# Altium schematic symbol library Memory_NVRAM.SchLib: 32 symbols
Pins are listed as number, name and electrical type; pins without a type are passive.

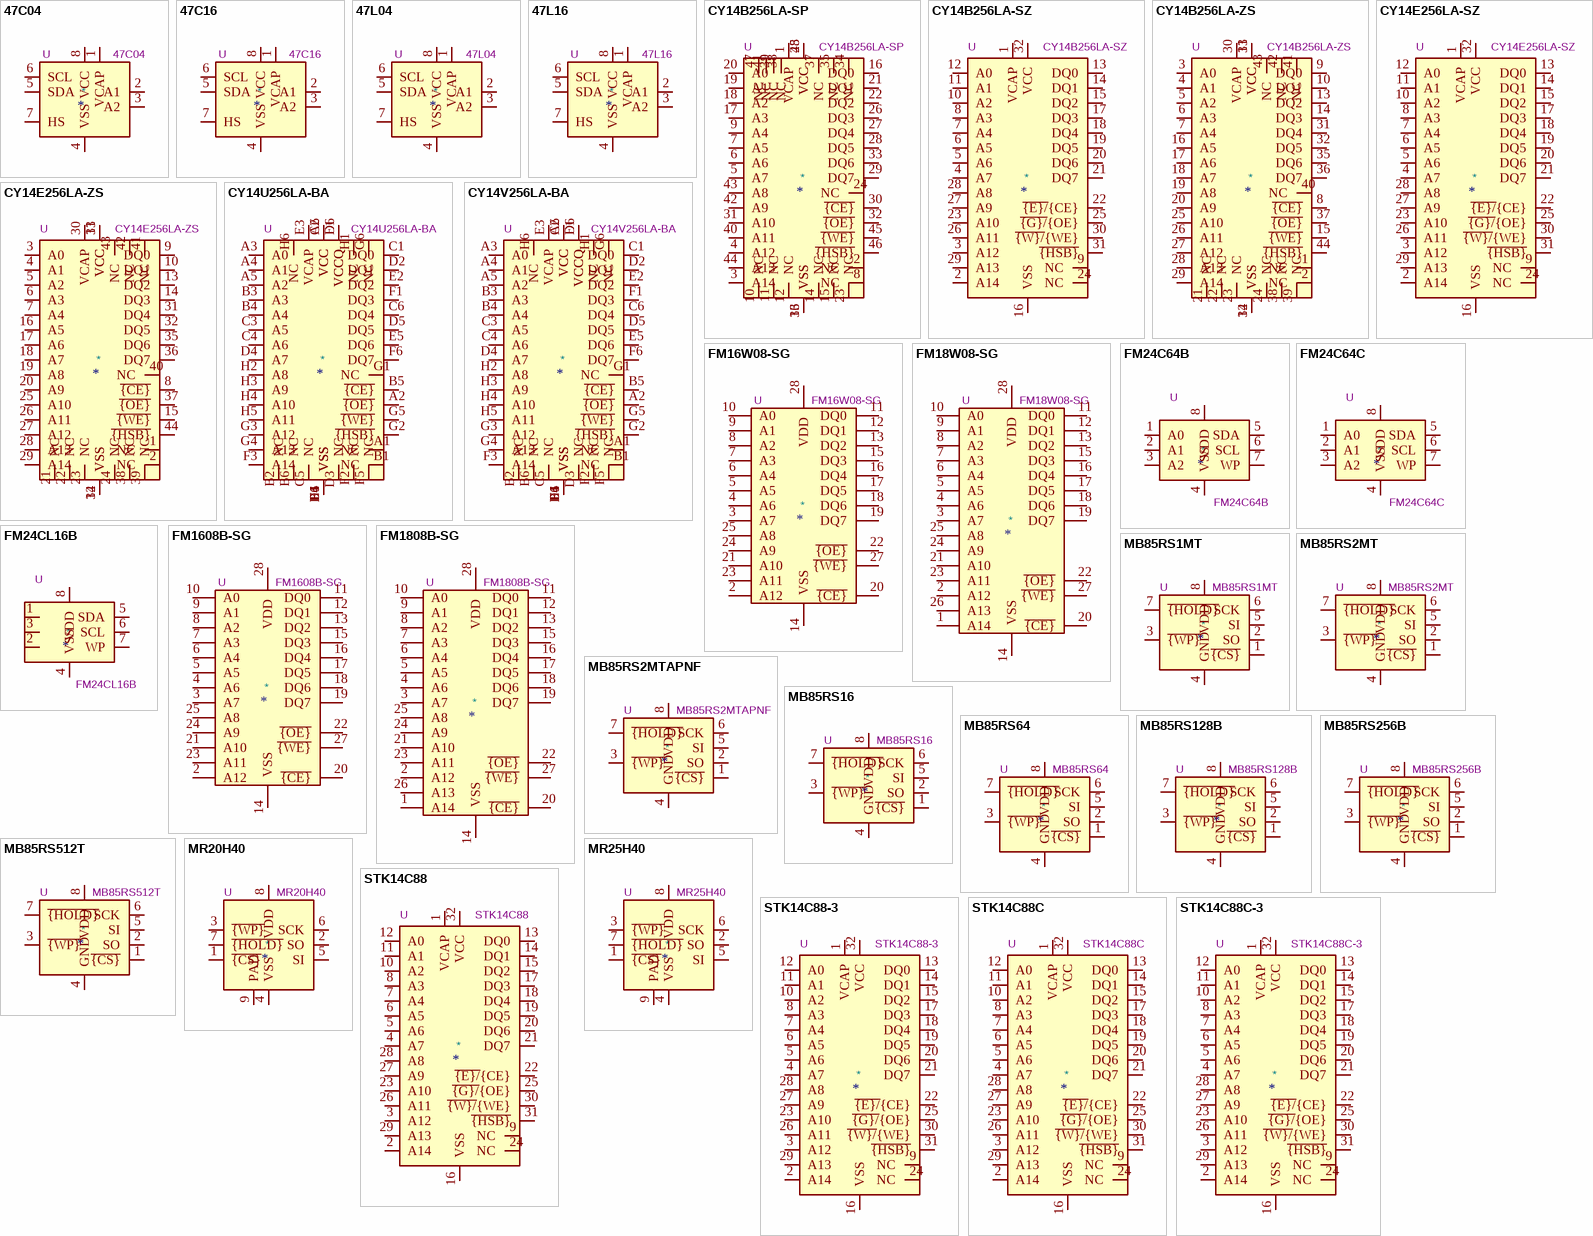
[diagram p0: symbols 47C04 to STK14C88C-3]

## 47C04
designator *  value 47C04  Reference: U
4kbit I2C serial EERAM, SRAM with EEPROM backup, 4.5-5.5V, DIP-8/SOIC-8/TSSOP-8; ki_keywords: 4kb 5V I2C serial EERAM SRAM EEPROM; ki_fp_filters: DIP*W7.62mm* SOIC*3.9x4.9mm*P1.27mm* TSSOP*4.4x3mm*P0.65mm*; Datasheet: http://ww1.microchip.com/downloads/en/DeviceDoc/20005371C.pdf; Description_: 4kbit I2C serial EERAM, SRAM with EEPROM backup, 4.5-5.5V, DIP-8/SOIC-8/TSSOP-8
pins: 1 VCAP, 2 A1, 3 A2, 4 VSS, 5 SDA, 6 SCL, 7 HS, 8 VCC

## 47C16
designator *  value 47C16  Reference: U
16kbit I2C serial EERAM, SRAM with EEPROM backup, 4.5-5.5V, DIP-8/SOIC-8/TSSOP-8; ki_keywords: 16kb 5V I2C serial EERAM SRAM EEPROM; ki_fp_filters: DIP*W7.62mm* SOIC*3.9x4.9mm*P1.27mm* TSSOP*4.4x3mm*P0.65mm*; Datasheet: http://ww1.microchip.com/downloads/en/DeviceDoc/20005371C.pdf; Description_: 16kbit I2C serial EERAM, SRAM with EEPROM backup, 4.5-5.5V, DIP-8/SOIC-8/TSSOP-8
pins: 1 VCAP, 2 A1, 3 A2, 4 VSS, 5 SDA, 6 SCL, 7 HS, 8 VCC

## 47L04
designator *  value 47L04  Reference: U
4kbit I2C serial EERAM, SRAM with EEPROM backup, 2.7-3.6V, DIP-8/SOIC-8/TSSOP-8; ki_keywords: 4kb 3V I2C serial EERAM SRAM EEPROM; ki_fp_filters: DIP*W7.62mm* SOIC*3.9x4.9mm*P1.27mm* TSSOP*4.4x3mm*P0.65mm*; Datasheet: http://ww1.microchip.com/downloads/en/DeviceDoc/20005371C.pdf; Description_: 4kbit I2C serial EERAM, SRAM with EEPROM backup, 2.7-3.6V, DIP-8/SOIC-8/TSSOP-8
pins: 1 VCAP, 2 A1, 3 A2, 4 VSS, 5 SDA, 6 SCL, 7 HS, 8 VCC

## 47L16
designator *  value 47L16  Reference: U
16kbit I2C serial EERAM, SRAM with EEPROM backup, 2.7-3.6V, DIP-8/SOIC-8/TSSOP-8; ki_keywords: 16kb 3V I2C serial EERAM SRAM EEPROM; ki_fp_filters: DIP*W7.62mm* SOIC*3.9x4.9mm*P1.27mm* TSSOP*4.4x3mm*P0.65mm*; Datasheet: http://ww1.microchip.com/downloads/en/DeviceDoc/20005371C.pdf; Description_: 16kbit I2C serial EERAM, SRAM with EEPROM backup, 2.7-3.6V, DIP-8/SOIC-8/TSSOP-8
pins: 1 VCAP, 2 A1, 3 A2, 4 VSS, 5 SDA, 6 SCL, 7 HS, 8 VCC

## CY14B256LA-SP
designator *  value CY14B256LA-SP  Reference: U
256-Kbit (32K x 8-bit) nvSRAM, single 3V +20% to –10% operation, 25/45ns, SSOP-48; ki_keywords: SRAM Static MEMORY 256Kbit Nonvolatile Non-Volatile; ki_fp_filters: *SSOP*7.*15.*P0.635mm*; Footprint: Package_SO:SSOP-48_7.5x15.9mm_P0.635mm; Datasheet: https://www.infineon.com/dgdl/Infineon-CY14B256LA_256-Kbit_(32_K_8)_nvSRAM-DataSheet-v13_00-EN.pdf?fileId=8ac78c8c7d0d8da4017d0ebd9bf63054; Description_: 256-Kbit (32K x 8-bit) nvSRAM, single 3V +20% to –10% operation, 25/45ns, SSOP-48
pins: 1 VCAP, 2 NC, 3 A14, 4 A12, 5 A7, 6 A6, 7 A5, 8 NC, 9 A4, 10 NC, 11 NC, 12 NC, 13 VSS, 14 NC, 15 NC, 16 DQ0, 17 A3, 18 A2, 19 A1, 20 A0, 21 DQ1, 22 DQ2, 23 NC, 24 NC, 25 VCC, 26 DQ3, 27 DQ4, 28 DQ5, 29 DQ7, 30 ~{{CE}}, 31 A10, 32 ~{{OE}}, 33 DQ6, 34 NC, 35 NC, 36 VSS, 37 NC, 38 NC, 39 NC, 40 A11, 41 NC, 42 A9, 43 A8, 44 A13, 45 ~{{WE}}, 46 ~{{HSB}}, 47 NC, 48 VCC

## CY14B256LA-SZ
designator *  value CY14B256LA-SZ  Reference: U
256-Kbit (32K x 8-bit) nvSRAM, single 3V +20% to –10% operation, 25/45ns, SOIC-32; ki_keywords: SRAM Static MEMORY 256Kbit Nonvolatile Non-Volatile Obsolete; ki_fp_filters: *SOIC*7.*20.*P1.27mm*; Footprint: Package_SO:SOIC-32_7.518x20.777mm_P1.27mm; Datasheet: https://www.infineon.com/dgdl/Infineon-CY14B256LA_256-Kbit_(32_K_8)_nvSRAM-DataSheet-v13_00-EN.pdf?fileId=8ac78c8c7d0d8da4017d0ebd9bf63054; Description_: 256-Kbit (32K x 8-bit) nvSRAM, single 3V +20% to –10% operation, 25/45ns, SOIC-32
pins: 1 VCAP, 2 A14, 3 A12, 4 A7, 5 A6, 6 A5, 7 A4, 8 A3, 9 NC, 10 A2, 11 A1, 12 A0, 13 DQ0, 14 DQ1, 15 DQ2, 16 VSS, 17 DQ3, 18 DQ4, 19 DQ5, 20 DQ6, 21 DQ7, 22 ~{{E}/}{CE}, 23 A10, 24 NC, 25 ~{{G}/}{OE}, 26 A11, 27 A9, 28 A8, 29 A13, 30 ~{{W}/}{WE}, 31 ~{{HSB}}, 32 VCC

## CY14B256LA-ZS
designator *  value CY14B256LA-ZS  Reference: U
256-Kbit (32K x 8-bit) nvSRAM, single 3V +20% to –10% operation, 25/45ns, TSOP-II-44; ki_keywords: SRAM Static MEMORY 256Kbit Nonvolatile Non-Volatile; ki_fp_filters: *TSOP?I*10.1*18*P0.8mm*; Footprint: Package_SO:TSOP-II-44_10.16x18.41mm_P0.8mm; Datasheet: https://www.infineon.com/dgdl/Infineon-CY14B256LA_256-Kbit_(32_K_8)_nvSRAM-DataSheet-v13_00-EN.pdf?fileId=8ac78c8c7d0d8da4017d0ebd9bf63054; Description_: 256-Kbit (32K x 8-bit) nvSRAM, single 3V +20% to –10% operation, 25/45ns, TSOP-II-44
pins: 1 NC, 2 NC, 3 A0, 4 A1, 5 A2, 6 A3, 7 A4, 8 ~{{CE}}, 9 DQ0, 10 DQ1, 11 VCC, 12 VSS, 13 DQ2, 14 DQ3, 15 ~{{WE}}, 16 A5, 17 A6, 18 A7, 19 A8, 20 A9, 21 NC, 22 NC, 23 NC, 24 NC, 25 A10, 26 A11, 27 A12, 28 A13, 29 A14, 30 VCAP, 31 DQ4, 32 DQ5, 33 VCC, 34 VSS, 35 DQ6, 36 DQ7, 37 ~{{OE}}, 38 NC, 39 NC, 40 NC, 41 NC, 42 NC, 43 NC, 44 ~{{HSB}}

## CY14E256LA-SZ
designator *  value CY14E256LA-SZ  Reference: U
256-Kbit (32K x 8-bit) nvSRAM, single 5V +/-10% operation, 25/45ns, SOIC-32; ki_keywords: SRAM Static MEMORY 256Kbit Nonvolatile Non-Volatile Obsolete; ki_fp_filters: *SOIC*7.*20.*P1.27mm*; Footprint: Package_SO:SOIC-32_7.518x20.777mm_P1.27mm; Datasheet: https://www.infineon.com/dgdl/Infineon-CY14E256LA_256-Kbit_(32_K_8)_nvSRAM-DataSheet-v12_00-EN.pdf?fileId=8ac78c8c7d0d8da4017d0ebf920b33f5; Description_: 256-Kbit (32K x 8-bit) nvSRAM, single 5V +/-10% operation, 25/45ns, SOIC-32
pins: 1 VCAP, 2 A14, 3 A12, 4 A7, 5 A6, 6 A5, 7 A4, 8 A3, 9 NC, 10 A2, 11 A1, 12 A0, 13 DQ0, 14 DQ1, 15 DQ2, 16 VSS, 17 DQ3, 18 DQ4, 19 DQ5, 20 DQ6, 21 DQ7, 22 ~{{E}/}{CE}, 23 A10, 24 NC, 25 ~{{G}/}{OE}, 26 A11, 27 A9, 28 A8, 29 A13, 30 ~{{W}/}{WE}, 31 ~{{HSB}}, 32 VCC

## CY14E256LA-ZS
designator *  value CY14E256LA-ZS  Reference: U
256-Kbit (32K x 8-bit) nvSRAM, single 5V +/-10% operation, 25/45ns, TSOP-II-44; ki_keywords: SRAM Static MEMORY 256Kbit Nonvolatile Non-Volatile Obsolete; ki_fp_filters: *TSOP?I*10.1*18*P0.8mm*; Footprint: Package_SO:TSOP-II-44_10.16x18.41mm_P0.8mm; Datasheet: https://www.infineon.com/dgdl/Infineon-CY14E256LA_256-Kbit_(32_K_8)_nvSRAM-DataSheet-v12_00-EN.pdf?fileId=8ac78c8c7d0d8da4017d0ebf920b33f5; Description_: 256-Kbit (32K x 8-bit) nvSRAM, single 5V +/-10% operation, 25/45ns, TSOP-II-44
pins: 1 NC, 2 NC, 3 A0, 4 A1, 5 A2, 6 A3, 7 A4, 8 ~{{CE}}, 9 DQ0, 10 DQ1, 11 VCC, 12 VSS, 13 DQ2, 14 DQ3, 15 ~{{WE}}, 16 A5, 17 A6, 18 A7, 19 A8, 20 A9, 21 NC, 22 NC, 23 NC, 24 NC, 25 A10, 26 A11, 27 A12, 28 A13, 29 A14, 30 VCAP, 31 DQ4, 32 DQ5, 33 VCC, 34 VSS, 35 DQ6, 36 DQ7, 37 ~{{OE}}, 38 NC, 39 NC, 40 NC, 41 NC, 42 NC, 43 NC, 44 ~{{HSB}}

## CY14U256LA-BA
designator *  value CY14U256LA-BA  Reference: U
256-Kbit (32K x 8-bit) nvSRAM, core VCC = 2.7V to 3.6V, I/O VCCQ = 1.65V to 1.95V, 35ns, TFBGA-48; ki_keywords: SRAM Static MEMORY 256Kbit Nonvolatile Non-Volatile; ki_fp_filters: *BGA*6*10mm*Layout6x8*P0.75mm*; Footprint: Package_BGA:Infineon_TFBGA-48_6x10mm_Layout6x8_P0.75mm; Datasheet: https://www.infineon.com/dgdl/Infineon-CY14U256LA_256-Kbit_(32_K_8)_nvSRAM-DataSheet-v03_00-EN.pdf?fileId=8ac78c8c7d0d8da4017d0ec0a9c33546; Description_: 256-Kbit (32K x 8-bit) nvSRAM, core VCC = 2.7V to 3.6V, I/O VCCQ = 1.65V to 1.95V, 35ns, TFBGA-48
pins: A1 NC, A2 ~{{OE}}, A3 A0, A4 A1, A5 A2, A6 VCC, B1 NC, B2 NC, B3 A3, B4 A4, B5 ~{{CE}}, B6 NC, C1 DQ0, C2 VCC, C3 A5, C4 A6, C5 NC, C6 DQ4, D1 VSS, D2 DQ1, D3 NC, D4 A7, D5 DQ5, D6 VCCQ, E1 VCCQ, E2 DQ2, E3 VCAP, E4 VSS, E5 DQ6, E6 VSS, F1 DQ3, F2 NC, F3 A14, F4 VSS, F5 NC, F6 DQ7, G1 NC, G2 ~{{HSB}}, G3 A12, G4 A13, G5 ~{{WE}}, G6 NC, H1 NC, H2 A8, H3 A9, H4 A10, H5 A11, H6 NC

## CY14V256LA-BA
designator *  value CY14V256LA-BA  Reference: U
256-Kbit (32K x 8-bit) nvSRAM, core VCC = 3.0V to 3.6V, I/O VCCQ = 1.65V to 1.95V, 35ns, TFBGA-48; ki_keywords: SRAM Static MEMORY 256Kbit Nonvolatile Non-Volatile; ki_fp_filters: *BGA*6*10mm*Layout6x8*P0.75mm*; Footprint: Package_BGA:Infineon_TFBGA-48_6x10mm_Layout6x8_P0.75mm; Datasheet: https://www.infineon.com/dgdl/Infineon-CY14V256LA_256-Kbit_(32_K_x_8)_nvSRAM-DataSheet-v06_00-EN.pdf?fileId=8ac78c8c7d0d8da4017d0ec03c9034c2; Description_: 256-Kbit (32K x 8-bit) nvSRAM, core VCC = 3.0V to 3.6V, I/O VCCQ = 1.65V to 1.95V, 35ns, TFBGA-48
pins: A1 NC, A2 ~{{OE}}, A3 A0, A4 A1, A5 A2, A6 VCC, B1 NC, B2 NC, B3 A3, B4 A4, B5 ~{{CE}}, B6 NC, C1 DQ0, C2 VCC, C3 A5, C4 A6, C5 NC, C6 DQ4, D1 VSS, D2 DQ1, D3 NC, D4 A7, D5 DQ5, D6 VCCQ, E1 VCCQ, E2 DQ2, E3 VCAP, E4 VSS, E5 DQ6, E6 VSS, F1 DQ3, F2 NC, F3 A14, F4 VSS, F5 NC, F6 DQ7, G1 NC, G2 ~{{HSB}}, G3 A12, G4 A13, G5 ~{{WE}}, G6 NC, H1 NC, H2 A8, H3 A9, H4 A10, H5 A11, H6 NC

## FM16W08-SG
designator *  value FM16W08-SG  Reference: U
64Kb FRAM nonvolatile memory, SOIC-28; ki_keywords: FRAM 5V Parallel; ki_fp_filters: SOIC?28*7.5x17.9mm*P1.27mm*; Footprint: Package_SO:SOIC-28W_7.5x17.9mm_P1.27mm; Datasheet: http://www.cypress.com/file/41731/download; Description_: 64Kb FRAM nonvolatile memory, SOIC-28
pins: 2 A12, 3 A7, 4 A6, 5 A5, 6 A4, 7 A3, 8 A2, 9 A1, 10 A0, 11 DQ0, 12 DQ1, 13 DQ2, 14 VSS, 15 DQ3, 16 DQ4, 17 DQ5, 18 DQ6, 19 DQ7, 20 ~{{CE}}, 21 A10, 22 ~{{OE}}, 23 A11, 24 A9, 25 A8, 27 ~{{WE}}, 28 VDD

## FM18W08-SG
designator *  value FM18W08-SG  Reference: U
256k FRAM nonvolatile memory, SOIC-28; ki_keywords: FRAM 5V Parallel; ki_fp_filters: SOIC*7.5x17.9mm*P1.27mm*; Footprint: Package_SO:SOIC-28W_7.5x17.9mm_P1.27mm; Datasheet: http://www.cypress.com/file/136521/download; Description_: 256k FRAM nonvolatile memory, SOIC-28
pins: 1 A14, 2 A12, 3 A7, 4 A6, 5 A5, 6 A4, 7 A3, 8 A2, 9 A1, 10 A0, 11 DQ0, 12 DQ1, 13 DQ2, 14 VSS, 15 DQ3, 16 DQ4, 17 DQ5, 18 DQ6, 19 DQ7, 20 ~{{CE}}, 21 A10, 22 ~{{OE}}, 23 A11, 24 A9, 25 A8, 26 A13, 27 ~{{WE}}, 28 VDD

## FM24C64B
designator *  value FM24C64B  Reference: U
64Kb serial FRAM nonvolatile Memory, SOIC-8; ki_keywords: FRAM I2C Serial 5V FRAM NVRAM; ki_fp_filters: SOIC*3.9x4.9mm*P1.27mm*; Footprint: Package_SO:SOIC-8_3.9x4.9mm_P1.27mm; Datasheet: http://www.cypress.com/file/41651/download; Description_: 64Kb serial FRAM nonvolatile Memory, SOIC-8
pins: 1 A0, 2 A1, 3 A2, 4 VSS, 5 SDA, 6 SCL, 7 WP, 8 VDD

## FM24C64C
designator *  value FM24C64C  Reference: U
64Kb serial FRAM nonvolatile Memory, SOIC-8; ki_keywords: FRAM I2C Serial 5V FRAM NVRAM; ki_fp_filters: SOIC*3.9x4.9mm*P1.27mm*; Footprint: Package_SO:SOIC-8_3.9x4.9mm_P1.27mm; Datasheet: http://www.cypress.com/file/41651/download; Description_: 64Kb serial FRAM nonvolatile Memory, SOIC-8
pins: 1 A0, 2 A1, 3 A2, 4 VSS, 5 SDA, 6 SCL, 7 WP, 8 VDD

## FM24CL16B
designator *  value FM24CL16B  Reference: U
16Kb serial FRAM nonvolatile Memory, SOIC-8; ki_keywords: FRAM I2C Serial 3.6V FRAM NVRAM; ki_fp_filters: SOIC*3.9x4.9mm*P1.27mm*; Footprint: Package_SO:SOIC-8_3.9x4.9mm_P1.27mm; Datasheet: https://www.infineon.com/dgdl/Infineon-FM24CL16B_16-Kbit_(2_K_8)_Serial_(I2C)_F-RAM-DataSheet-v13_00-EN.pdf?fileId=8ac78c8c7d0d8da4017d0ec99cb241e9; Description_: 16Kb serial FRAM nonvolatile Memory, SOIC-8
pins: 1, 2, 3, 4 VSS, 5 SDA, 6 SCL, 7 WP, 8 VDD

## FM1608B-SG
designator *  value FM1608B-SG  Reference: U
64Kb FRAM nonvolatile memory, SOIC-28; ki_keywords: FRAM 5V Parallel; ki_fp_filters: SOIC?28*7.5x17.9mm*P1.27mm*; Footprint: Package_SO:SOIC-28W_7.5x17.9mm_P1.27mm; Datasheet: http://www.cypress.com/file/41731/download; Description_: 64Kb FRAM nonvolatile memory, SOIC-28
pins: 2 A12, 3 A7, 4 A6, 5 A5, 6 A4, 7 A3, 8 A2, 9 A1, 10 A0, 11 DQ0, 12 DQ1, 13 DQ2, 14 VSS, 15 DQ3, 16 DQ4, 17 DQ5, 18 DQ6, 19 DQ7, 20 ~{{CE}}, 21 A10, 22 ~{{OE}}, 23 A11, 24 A9, 25 A8, 27 ~{{WE}}, 28 VDD

## FM1808B-SG
designator *  value FM1808B-SG  Reference: U
256k FRAM nonvolatile memory, SOIC-28; ki_keywords: FRAM 5V Parallel; ki_fp_filters: SOIC*7.5x17.9mm*P1.27mm*; Footprint: Package_SO:SOIC-28W_7.5x17.9mm_P1.27mm; Datasheet: http://www.cypress.com/file/136521/download; Description_: 256k FRAM nonvolatile memory, SOIC-28
pins: 1 A14, 2 A12, 3 A7, 4 A6, 5 A5, 6 A4, 7 A3, 8 A2, 9 A1, 10 A0, 11 DQ0, 12 DQ1, 13 DQ2, 14 VSS, 15 DQ3, 16 DQ4, 17 DQ5, 18 DQ6, 19 DQ7, 20 ~{{CE}}, 21 A10, 22 ~{{OE}}, 23 A11, 24 A9, 25 A8, 26 A13, 27 ~{{WE}}, 28 VDD

## MB85RS1MT
designator *  value MB85RS1MT  Reference: U
FRAM memory with SPI interface, SOIC-8 SON-8; ki_keywords: FRAM SPI 3.3V; ki_fp_filters: SOIC*3.9x5.05mm*P1.27mm* *SON*2x3mm*P0.50mm*; Datasheet: http://www.fujitsu.com/downloads/MICRO/fsa/pdf/products/memory/fram/MB85RS16-DS501-00014-6v0-E.pdf; Description_: FRAM memory with SPI interface, SOIC-8 SON-8
pins: 1 ~{{CS}}, 2 SO, 3 ~{{WP}}, 4 GND, 5 SI, 6 SCK, 7 ~{{HOLD}}, 8 VDD

## MB85RS2MT
designator *  value MB85RS2MT  Reference: U
FeRAM memory with SPI interface, 2Mbit (256K x 8), 1.8V to 3.6V supply, DIP-8 / SOIC-8 (SOP-8, 208 mil); ki_keywords: FRAM Ferroelectric-RAM 3.3V 2-Mbit MB85RS2MTPH MB85RS2MTPF Fujitsu Obsolete; ki_fp_filters: *SOIC*5.3x5.3mm*P1.27mm* DIP?8?W7.62mm*; Datasheet: https://www.mouser.com/datasheet/2/1113/MB85RS2MT_DS501_00023_5v0_E-2515390.pdf; Description_: FeRAM memory with SPI interface, 2Mbit (256K x 8), 1.8V to 3.6V supply, DIP-8 / SOIC-8 (SOP-8, 208 mil)
pins: 1 ~{{CS}}, 2 SO, 3 ~{{WP}}, 4 GND, 5 SI, 6 SCK, 7 ~{{HOLD}}, 8 VDD

## MB85RS2MTAPNF
designator *  value MB85RS2MTAPNF  Reference: U
FeRAM memory with SPI interface, 2Mbit (256K x 8), 1.7V to 3.6V supply, SOIC-8 (SOP-8, 150 mil); ki_keywords: FRAM Ferroelectric-RAM 3.3V 2-Mbit RAMXEED; ki_fp_filters: *SO*3.9x4.9*P1.27mm*; Footprint: Package_SO:SOP-8_3.9x4.9mm_P1.27mm; Datasheet: https://www.mouser.com/datasheet/2/1113/MB85RS2MTA_DS6v0_E-3538530.pdf; Description_: FeRAM memory with SPI interface, 2Mbit (256K x 8), 1.7V to 3.6V supply, SOIC-8 (SOP-8, 150 mil)
pins: 1 ~{{CS}}, 2 SO, 3 ~{{WP}}, 4 GND, 5 SI, 6 SCK, 7 ~{{HOLD}}, 8 VDD

## MB85RS16
designator *  value MB85RS16  Reference: U
FRAM memory with SPI interface, SOIC-8 SON-8; ki_keywords: FRAM SPI 3.3V; ki_fp_filters: SOIC*3.9x5.05mm*P1.27mm* *SON*2x3mm*P0.50mm*; Datasheet: http://www.fujitsu.com/downloads/MICRO/fsa/pdf/products/memory/fram/MB85RS16-DS501-00014-6v0-E.pdf; Description_: FRAM memory with SPI interface, SOIC-8 SON-8
pins: 1 ~{{CS}}, 2 SO, 3 ~{{WP}}, 4 GND, 5 SI, 6 SCK, 7 ~{{HOLD}}, 8 VDD

## MB85RS64
designator *  value MB85RS64  Reference: U
FRAM memory with SPI interface, SOIC-8 SON-8; ki_keywords: FRAM SPI 3.3V; ki_fp_filters: SOIC*3.9x5.05mm*P1.27mm* *SON*2x3mm*P0.50mm*; Datasheet: http://www.fujitsu.com/downloads/MICRO/fme/fram/datasheet-MB85RS64.pdf; Description_: FRAM memory with SPI interface, SOIC-8 SON-8
pins: 1 ~{{CS}}, 2 SO, 3 ~{{WP}}, 4 GND, 5 SI, 6 SCK, 7 ~{{HOLD}}, 8 VDD

## MB85RS128B
designator *  value MB85RS128B  Reference: U
FRAM memory with SPI interface, SOIC-8 SON-8; ki_keywords: FRAM SPI 3.3V; ki_fp_filters: SOIC*3.9x5.05mm*P1.27mm* *SON*2x3mm*P0.50mm*; Datasheet: http://www.fujitsu.com/downloads/MICRO/fsa/pdf/products/memory/fram/MB85RS16-DS501-00014-6v0-E.pdf; Description_: FRAM memory with SPI interface, SOIC-8 SON-8
pins: 1 ~{{CS}}, 2 SO, 3 ~{{WP}}, 4 GND, 5 SI, 6 SCK, 7 ~{{HOLD}}, 8 VDD

## MB85RS256B
designator *  value MB85RS256B  Reference: U
FRAM memory with SPI interface, SOIC-8 SON-8; ki_keywords: FRAM SPI 3.3V; ki_fp_filters: SOIC*3.9x5.05mm*P1.27mm* *SON*2x3mm*P0.50mm*; Datasheet: http://www.fujitsu.com/downloads/MICRO/fsa/pdf/products/memory/fram/MB85RS16-DS501-00014-6v0-E.pdf; Description_: FRAM memory with SPI interface, SOIC-8 SON-8
pins: 1 ~{{CS}}, 2 SO, 3 ~{{WP}}, 4 GND, 5 SI, 6 SCK, 7 ~{{HOLD}}, 8 VDD

## MB85RS512T
designator *  value MB85RS512T  Reference: U
FRAM memory with SPI interface, SOIC-8 SON-8; ki_keywords: FRAM SPI 3.3V; ki_fp_filters: SOIC*3.9x5.05mm*P1.27mm* *SON*2x3mm*P0.50mm*; Datasheet: http://www.fujitsu.com/downloads/MICRO/fsa/pdf/products/memory/fram/MB85RS16-DS501-00014-6v0-E.pdf; Description_: FRAM memory with SPI interface, SOIC-8 SON-8
pins: 1 ~{{CS}}, 2 SO, 3 ~{{WP}}, 4 GND, 5 SI, 6 SCK, 7 ~{{HOLD}}, 8 VDD

## MR20H40
designator *  value MR20H40  Reference: U
4Mb MRAM memory with SPI interface, DFN-8; ki_keywords: MRAM SPI EEPROM 3.3V; ki_fp_filters: DFN*6x5mm*P1.27mm*; Datasheet: https://www.everspin.com/file/217/download; Description_: 4Mb MRAM memory with SPI interface, DFN-8
pins: 1 ~{{CS}}, 2 SO, 3 ~{{WP}}, 4 VSS, 5 SI, 6 SCK, 7 ~{{HOLD}}, 8 VDD, 9 PAD

## MR25H40
designator *  value MR25H40  Reference: U
4Mb MRAM memory with SPI interface, DFN-8; ki_keywords: MRAM SPI EEPROM 3.3V; ki_fp_filters: DFN*6x5mm*P1.27mm*; Datasheet: https://www.everspin.com/file/217/download; Description_: 4Mb MRAM memory with SPI interface, DFN-8
pins: 1 ~{{CS}}, 2 SO, 3 ~{{WP}}, 4 VSS, 5 SI, 6 SCK, 7 ~{{HOLD}}, 8 VDD, 9 PAD

## STK14C88
designator *  value STK14C88  Reference: U
256-Kbit (32K x 8-bit) AutoStore nvSRAM, single 5V +/-10% operation, 20/25/35/45ns, DIP-32/SOIC-32/LCC-32; ki_keywords: EEPROM SRAM Static MEMORY CMOS 256Kbit Nonvolatile Non-Volatile Obsolete; ki_fp_filters: *DIP*W15.* *DIP*W7.* *SO*7.*20.*P1.27mm* *LCC*11.*14.*P1.27mm*; Datasheet: https://www.farnell.com/datasheets/5333.pdf; Description_: 256-Kbit (32K x 8-bit) AutoStore nvSRAM, single 5V +/-10% operation, 20/25/35/45ns, DIP-32/SOIC-32/LCC-32
pins: 1 VCAP, 2 A14, 3 A12, 4 A7, 5 A6, 6 A5, 7 A4, 8 A3, 9 NC, 10 A2, 11 A1, 12 A0, 13 DQ0, 14 DQ1, 15 DQ2, 16 VSS, 17 DQ3, 18 DQ4, 19 DQ5, 20 DQ6, 21 DQ7, 22 ~{{E}/}{CE}, 23 A10, 24 NC, 25 ~{{G}/}{OE}, 26 A11, 27 A9, 28 A8, 29 A13, 30 ~{{W}/}{WE}, 31 ~{{HSB}}, 32 VCC

## STK14C88-3
designator *  value STK14C88-3  Reference: U
256-Kbit (32K x 8-bit) AutoStore nvSRAM, single 3.3V +/-0.3V operation, 35/45ns, DIP-32/SOIC-32; ki_keywords: EEPROM SRAM Static MEMORY CMOS 256Kbit Nonvolatile Non-Volatile Obsolete; ki_fp_filters: *DIP*W15.* *SO*7.*20.*P1.27mm*; Datasheet: https://www.mouser.com/ds/2/100/STK14C88-3_001-50592-356490.pdf; Description_: 256-Kbit (32K x 8-bit) AutoStore nvSRAM, single 3.3V +/-0.3V operation, 35/45ns, DIP-32/SOIC-32
pins: 1 VCAP, 2 A14, 3 A12, 4 A7, 5 A6, 6 A5, 7 A4, 8 A3, 9 NC, 10 A2, 11 A1, 12 A0, 13 DQ0, 14 DQ1, 15 DQ2, 16 VSS, 17 DQ3, 18 DQ4, 19 DQ5, 20 DQ6, 21 DQ7, 22 ~{{E}/}{CE}, 23 A10, 24 NC, 25 ~{{G}/}{OE}, 26 A11, 27 A9, 28 A8, 29 A13, 30 ~{{W}/}{WE}, 31 ~{{HSB}}, 32 VCC

## STK14C88C
designator *  value STK14C88C  Reference: U
256-Kbit (32K x 8-bit) nvSRAM, single 5V +/-10% operation, 35ns, DIP-32; ki_keywords: EEPROM SRAM Static MEMORY CMOS 256Kbit Nonvolatile Non-Volatile Obsolete; ki_fp_filters: *DIP*W7.*; Footprint: Package_DIP:DIP-32_W7.62mm; Datasheet: https://www.infineon.com/dgdl/Infineon-STK14C88C_256-Kbit_(32K_x_8)_nvSRAM-DataSheet-v02_00-EN.pdf?fileId=8ac78c8c7d0d8da4017d0ee81f447111; Description_: 256-Kbit (32K x 8-bit) nvSRAM, single 5V +/-10% operation, 35ns, DIP-32
pins: 1 VCAP, 2 A14, 3 A12, 4 A7, 5 A6, 6 A5, 7 A4, 8 A3, 9 NC, 10 A2, 11 A1, 12 A0, 13 DQ0, 14 DQ1, 15 DQ2, 16 VSS, 17 DQ3, 18 DQ4, 19 DQ5, 20 DQ6, 21 DQ7, 22 ~{{E}/}{CE}, 23 A10, 24 NC, 25 ~{{G}/}{OE}, 26 A11, 27 A9, 28 A8, 29 A13, 30 ~{{W}/}{WE}, 31 ~{{HSB}}, 32 VCC

## STK14C88C-3
designator *  value STK14C88C-3  Reference: U
256-Kbit (32K x 8-bit) nvSRAM, single 3.0V +20%/-10% (industrial) / single 3.3V +/-0.3V (military), 35ns, DIP-32; ki_keywords: SRAM Static MEMORY CMOS 256Kbit Nonvolatile Non-Volatile Obsolete; ki_fp_filters: *DIP*W7.*; Footprint: Package_DIP:DIP-32_W7.62mm; Datasheet: https://www.infineon.com/dgdl/Infineon-STK14C88C-35C35M-DataSheet-v02_00-EN.pdf?fileId=8ac78c8c7d0d8da4017d0ee829987116; Description_: 256-Kbit (32K x 8-bit) nvSRAM, single 3.0V +20%/-10% (industrial) / single 3.3V +/-0.3V (military), 35ns, DIP-32
pins: 1 VCAP, 2 A14, 3 A12, 4 A7, 5 A6, 6 A5, 7 A4, 8 A3, 9 NC, 10 A2, 11 A1, 12 A0, 13 DQ0, 14 DQ1, 15 DQ2, 16 VSS, 17 DQ3, 18 DQ4, 19 DQ5, 20 DQ6, 21 DQ7, 22 ~{{E}/}{CE}, 23 A10, 24 NC, 25 ~{{G}/}{OE}, 26 A11, 27 A9, 28 A8, 29 A13, 30 ~{{W}/}{WE}, 31 ~{{HSB}}, 32 VCC